# EAGLE library part D__7SEGMENT_CC (library ++Bedrahtet)
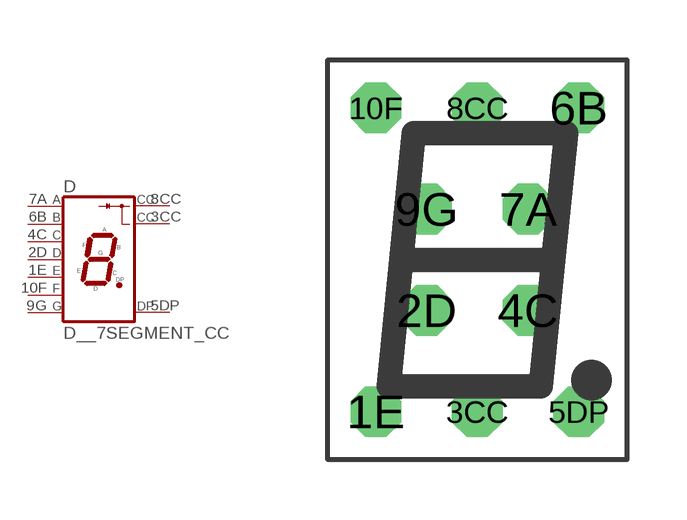
[diagram p1: symbol with the pads of 7SEGCC; footprint 7SEGCC]

Designator prefix D

## D__7SEGMENT_CC  [7SEGCC]
1E  E  pas
2D  D  pas
3CC  CC  pas
4C  C  pas
5DP  DP  pas
6B  B  pas
7A  A  pas
8CC  CC  pas
9G  G  pas
10F  F  pas

## Footprint 7SEGCC (pad centres in mm)
drill 0.6 pad 1.27 octagon: 1E -2.54,-3.81; 2D -1.27,-1.27; 3CC 0,-3.81; 4C 1.27,-1.27; 5DP 2.54,-3.81; 6B 2.54,3.81; 7A 1.27,1.27; 8CC 0,3.81; 9G -1.27,1.27; 10F -2.54,3.81